# Altium footprint library LED_CLMVC-FKA-CL1D1L71BB7C3C3.PcbLib: 1 footprints
Each footprint in its own frame and in the unit in brackets; x right, y up, seen from the top. Pads: shape width x height; smd on the part's side, far side on the other; paste and mask are expansions set on the pad; w line width, h text height; cw(c..) or ccw(c..) is an arc to the next point about the centre after c.
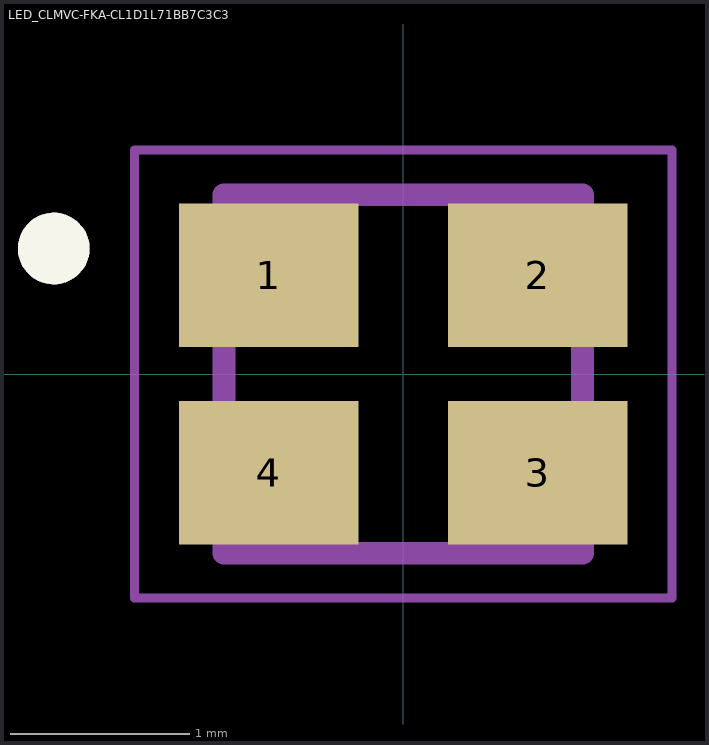
[diagram p0: the footprint, top view; thin cyan lines are the x and y axes]

## LED_CLMVC-FKA-CL1D1L71BB7C3C3 [mm]
pads (4):
  rect 1x0.8 smd: 1(-0.75,0.55) 2(0.75,0.55) 3(0.75,-0.55) 4(-0.75,-0.55)
Top Overlay:
  circle w0.2: c-1.95,0.7 r0.1
Top Solder:
  rectangle: -0.175,-1.05 0.175,1.05
  rectangle: -1.35,-0.075 1.35,0.075
Mechanical 13:
  circle w0.2: c-1.95,0.7 r0.1
  lines w0.127: -1,-1 1,-1 1,1 -1,1 -1,-1
Mechanical 15:
  lines w0.05: -1.5,-1.25 1.5,-1.25 1.5,1.25 -1.5,1.25 -1.5,-1.25
3D body "step_temp.STEP": height 0.5, standoff -0.5, extent -1,-1 1,1